# EAGLE library part MA09-1 (library we-con)
Pin Header
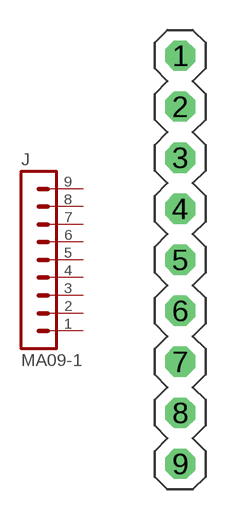
[diagram p10: symbol with the pads of MA09-1; footprint MA09-1]

Designator prefix J

## MA09-1  [MA09-1]
1  1  pas
2  2  pas
3  3  pas
4  4  pas
5  5  pas
6  6  pas
7  7  pas
8  8  pas
9  9  pas

## Footprint MA09-1 (pad centres in mm)
drill 1 octagon: 1 0,10.16; 2 0,7.62; 3 0,5.08; 4 0,2.54; 5 0,0; 6 0,-2.54; 7 0,-5.08; 8 0,-7.62; 9 0,-10.16